# Altium integrated library ON Semi ESD Protection Diodes & Arrays.IntLib: 286 symbols (part 4 of 8)
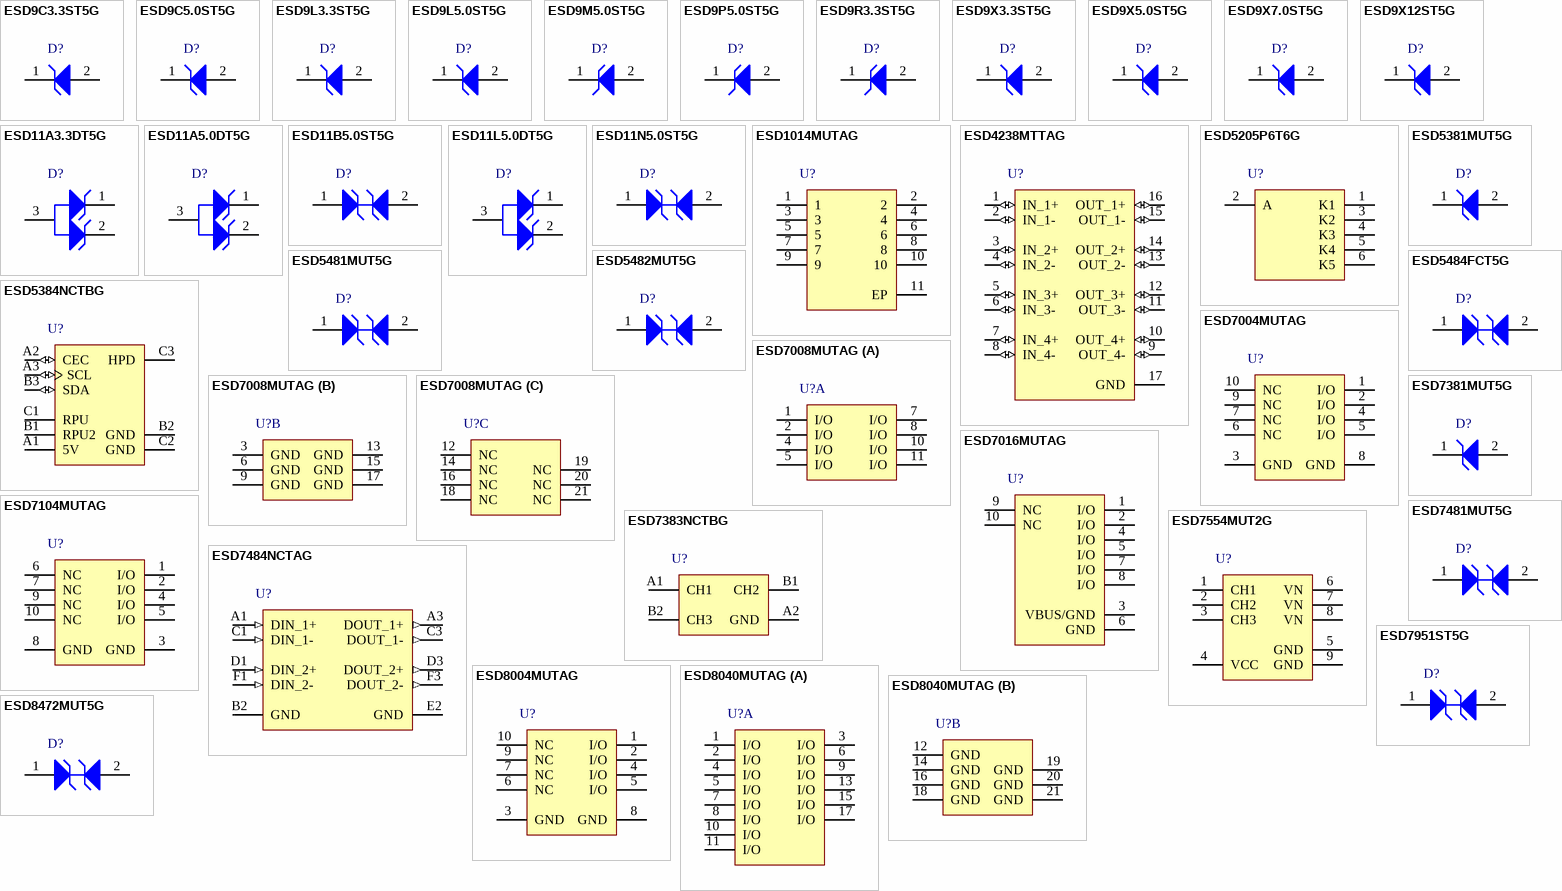
[diagram p10: symbols ESD9C3.3ST5G to ESD8472MUT5G]

## ESD7554MUT2G
designator U?
4­Channel Low Capacitance Dual­Voltage ESD Protection Array, 8-Pin UDFN, Pb-Free, Tape and Reel; Manufacturer: On Semiconductor; PartNumber: ESD7554MUT2G; C Max (pF): 1.5; Direction: Unidirectional; IR Max (uA): 0.1; Number of Lines: 4; DatasheetVersion: Rev. 0; PackageVersion: Rev. O, 11/2009; PackageReference: UDFN-8-517BC-01; PackageDescription: 8-Pin Small Outline No-Lead, Body 1.7 x 1.35 mm, Pitch 0.4 mm; Supplier 1: Newark; Supplier Part Number 1: 72W1862; Supplier 2: Mouser; Supplier Part Number 2: 863-ESD7554MUT2G; Packing: Tape and Reel; RoHS: Pb-Free; Mounting Technology: Surface Mount; ComponentLink1Description: Manufacturer URL; ComponentLink1URL: http://www.onsemi.com/; ComponentLink2Description: Datasheet; ComponentLink2URL: http://www.onsemi.cn/pub_link/Collateral/ESD7554-D.PDF; ComponentLink3Description: Package Specification; ComponentLink3URL: http://www.onsemi.com/pub_link/Collateral/517BC.PDF
footprint ONSC-UDFN-8-517BC-01_V (SON, 8-Leads, Body 1.7x1.35mm, Pitch 0.4mm, Thermal Pad 1.4x0.5mm)
pins: 1 CH1 "LV Low-capacitance ESD Channel", 2 CH2 "LV Low-capacitance ESD Channel", 3 CH3 "LV Low-capacitance ESD Channel", 4 VCC (power) "HV ESD Channel", 5 GND (power) "Ground", 6 VN (power) "Negative Voltage Supply Rail", 7 VN (power) "Negative Voltage Supply Rail", 8 VN (power) "Negative Voltage Supply Rail", 9 GND (power) "Die Attach Pad (Ground)"

## ESD7951ST5G
designator D?
Transient Voltage Suppressor, ESD Protection Diode with Ultra-Low Capacitance, 2-Pin SOD-923, Pb-Free, Tape and Reel; Manufacturer: On Semiconductor; PartNumber: ESD7951ST5G; C Max (pF): 0.9; Direction: Bidirectional; IR Max (uA): 1; V(BR) Min (V): 5.4; VRWM Max (V): 5; DatasheetVersion: Rev. 2; PackageVersion: Rev. C, 03/2011; PackageReference: SOD-923-2-514AB-01; PackageDescription: 2-Pin SOD, Body 0.8 x 0.6 mm; Supplier 1: Digi-Key; Supplier Part Number 1: ESD7951ST5GOSTR-ND; Supplier 2: Digi-Key; Supplier Part Number 2: ESD7951ST5GOSCT-ND; Supplier 3: Digi-Key; Supplier Part Number 3: ESD7951ST5GOSDKR-ND; Supplier 4: Newark; Supplier Part Number 4: 24T3072; Supplier 5: Mouser; Supplier Part Number 5: 863-ESD7951ST5G; Number of Lines: 1; Packing: Tape and Reel; RoHS: Pb-Free; Mounting Technology: Surface Mount; ComponentLink1Description: Manufacturer URL; ComponentLink1URL: http://www.onsemi.com/; ComponentLink2Description: Datasheet; ComponentLink2URL: http://www.onsemi.cn/pub_link/Collateral/ESD7951S-D.PDF; ComponentLink3Description: Package Specification; ComponentLink3URL: http://www.onsemi.com/pub_link/Collateral/514AB.PDF
footprint ONSC-SOD-923-2-514AB-01_V (SOD, 2-Leads, Body 0.8x0.6mm)
pins: 1 A1, 2 A2

## ESD8004MUTAG
designator U?
Transient Voltage Suppressor, Low Capacitance ESD Protection Diode for High Speed Data Line, 10-Pin UDFN, Pb-Free, Tape and Reel; Manufacturer: On Semiconductor; PartNumber: ESD8004MUTAG; Direction: Unidirectional; IR Max (uA): 1; Number of Lines: 4; V(BR) Min (V): 5.5; VRWM Max (V): 3.3; DatasheetVersion: Rev. 2; PackageVersion: Rev. O, 11/2009; PackageReference: UDFN-10-517BB-01; PackageDescription: 10-Pin Small Outline No-Lead, Body 2.5 x 1 mm, Pitch 0.5 mm; Supplier 1: Mouser; Supplier Part Number 1: 863-ESD8004MUTAG; Packing: Tape and Reel; RoHS: Pb-Free; Mounting Technology: Surface Mount; ComponentLink1Description: Manufacturer URL; ComponentLink1URL: http://www.onsemi.com/; ComponentLink2Description: Datasheet; ComponentLink2URL: http://www.onsemi.com/pub_link/Collateral/ESD8004-D.PDF; ComponentLink3Description: Package Specification; ComponentLink3URL: http://www.onsemi.com/pub_link/Collateral/517BB.PDF
footprint ONSC-UDFN-10-517BB-01_V (SON, 10-Leads, Body 2.5x1mm, Pitch 0.5mm)
pins: 1 I/O, 2 I/O, 3 GND (power), 4 I/O, 5 I/O, 6 NC, 7 NC, 8 GND (power), 9 NC, 10 NC

## ESD8040MUTAG
designator U?
Transient Voltage Suppressor, Low Capacitance ESD Protection Diode for High Speed Video Interface, 18-Pin UDFN, Pb-Free, Tape and Reel; Manufacturer: On Semiconductor; PartNumber: ESD8040MUTAG; C Max (pF): 0.35; Direction: Unidirectional; IR Max (uA): 1; Number of Lines: 14; VRWM Max (V): 3.3; DatasheetVersion: Rev. 0; PackageVersion: Rev. A, 02/2013; PackageReference: UDFN-18-517CP; PackageDescription: 18-Pin Small Outline No-Lead, Body 5.5 x 1.5 mm; Supplier 1: Newark; Supplier Part Number 1: 97W5004; Supplier 2: Mouser; Supplier Part Number 2: 863-ESD8040MUTAG; Packing: Tape and Reel; RoHS: Pb-Free; Mounting Technology: Surface Mount; ComponentLink1Description: Manufacturer URL; ComponentLink1URL: http://www.onsemi.com/; ComponentLink2Description: Datasheet; ComponentLink2URL: http://www.onsemi.com/pub_link/Collateral/ESD8040-D.PDF; ComponentLink3Description: Package Specification; ComponentLink3URL: http://www.onsemi.com/pub_link/Collateral/517CP.PDF
footprint ONSC-UDFN-18-517CP_V (SON, 18-Leads, Body 5.5x1.5mm)
part A pins: 1 I/O, 2 I/O, 3 I/O, 4 I/O, 5 I/O, 6 I/O, 7 I/O, 8 I/O, 9 I/O, 10 I/O, 11 I/O, 13 I/O, 15 I/O, 17 I/O
part B pins: 12 GND (power), 14 GND (power), 16 GND (power), 18 GND (power), 19 GND (power), 20 GND (power), 21 GND (power)

## ESD8472MUT5G
designator D?
Ultra-Low Capacitance ESD Protection, Micro-Packaged Diode for ESD Protection, 2-Pin X3DFN, Pb-Free, Tape and Reel; Manufacturer: On Semiconductor; PartNumber: ESD8472MUT5G; C Max (pF): 0.3; Direction: Bidirectional; IR Max (uA): 0.05; Number of Lines: 1; V(BR) Min (V): 7; VRWM Max (V): 5.3; DatasheetVersion: Rev. 4; PackageVersion: Rev. O, 04/2011; PackageReference: X3DFN-2-152AF-01; PackageDescription: 2-Pin Small Outline No-Lead, Body 0.62 x 0.32 mm, Pitch 0.355 mm; Supplier 1: Newark; Supplier Part Number 1: 45W8177; Supplier 2: Mouser; Supplier Part Number 2: 863-ESD8472MUT5G; Packing: Tape and Reel; RoHS: Pb-Free; Mounting Technology: Surface Mount; ComponentLink1Description: Manufacturer URL; ComponentLink1URL: http://www.onsemi.com/; ComponentLink2Description: Datasheet; ComponentLink2URL: http://www.onsemi.cn/pub_link/Collateral/ESD8472-D.PDF; ComponentLink3Description: Package Specification; ComponentLink3URL: http://www.onsemi.cn/pub_link/Collateral/152AF.PDF
footprint ONSC-X3DFN-2-152AF-01_V (Molded, 2-Leads, Body 0.62x0.32mm)
pins: 1 A1, 2 A2

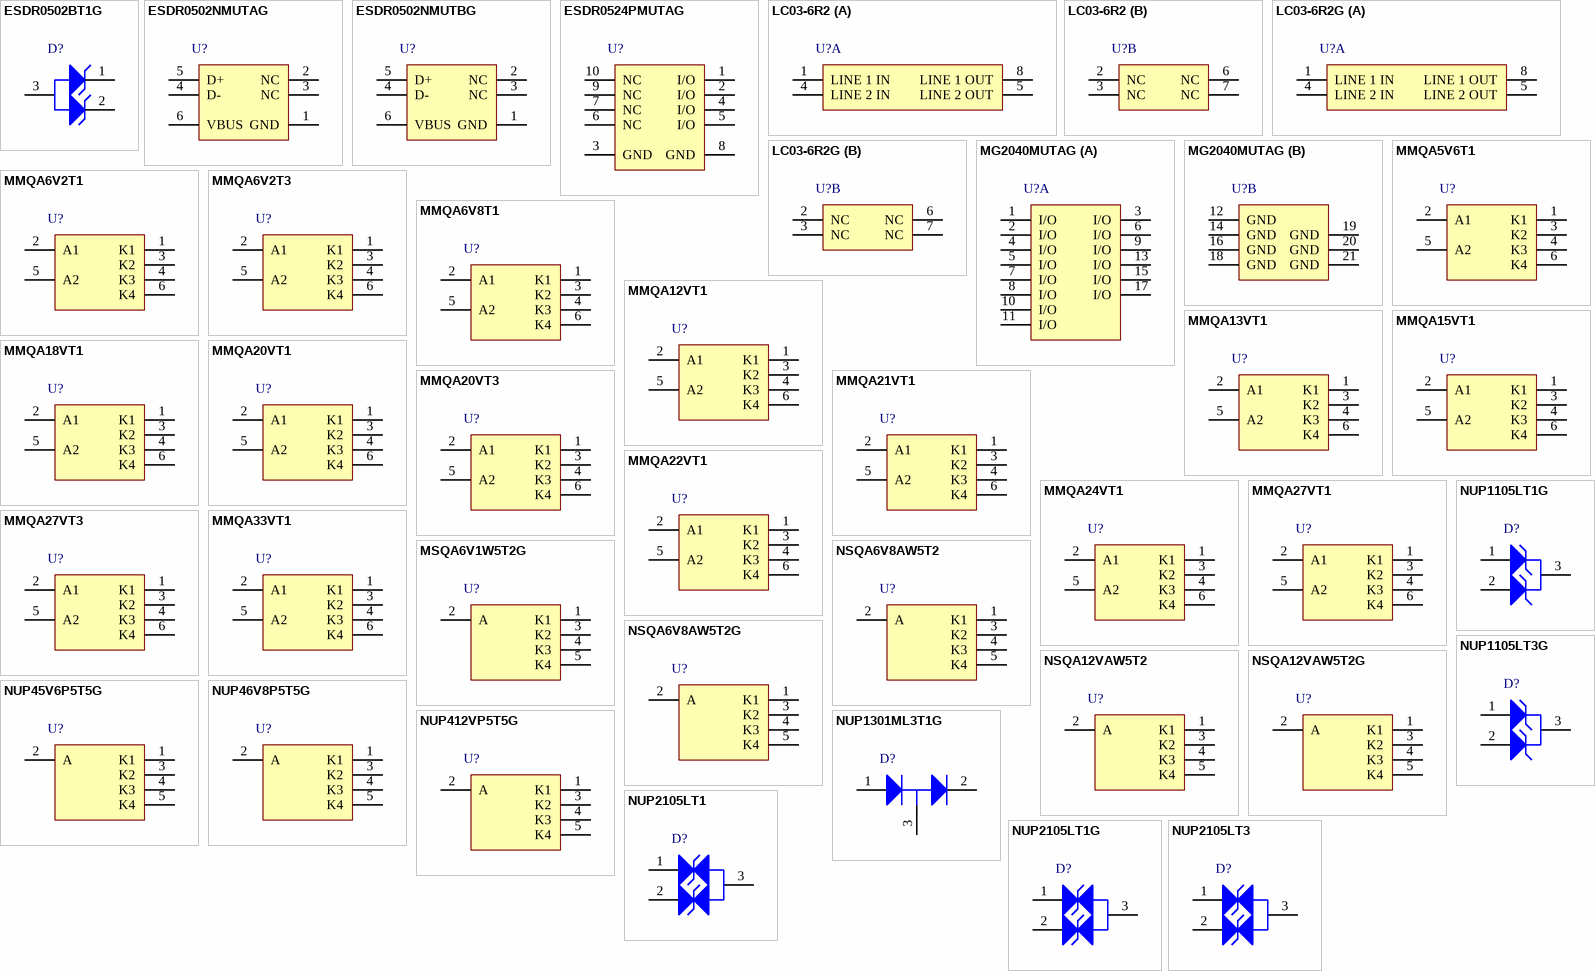
[diagram p3: symbols ESDR0502BT1G to NUP2105LT3]

## ESDR0502BT1G
designator D?
Transient Voltage Suppressor, ESD Protection Diode with Ultra-Low Capacitance, 3-Pin SC-75, Pb-Free, Tape and Reel; Manufacturer: On Semiconductor; PartNumber: ESDR0502BT1G; Direction: Unidirectional; IR Max (uA): 1; Number of Lines: 2; PPK Max (W): 20; V(BR) Min (V): 5.8; VRWM Max (V): 5; DatasheetVersion: Rev. 0; PackageVersion: Rev. F, 07/2005; PackageReference: SC-75-3-463-01; PackageDescription: 3-Pin Small Outline Transistor, Body 1.6 x 0.8 mm, Pitch 0.5 mm; Supplier 1: Digi-Key; Supplier Part Number 1: ESDR0502BT1GOSTR-ND; Supplier 2: Digi-Key; Supplier Part Number 2: ESDR0502BT1GOSCT-ND; Supplier 3: Digi-Key; Supplier Part Number 3: ESDR0502BT1GOSDKR-ND; Supplier 4: Farnell; Supplier Part Number 4: 2317492; Supplier 5: Newark; Supplier Part Number 5: 99R2678; Supplier 6: Mouser; Supplier Part Number 6: 863-ESDR0502BT1G; Packing: Tape and Reel; RoHS: Pb-Free; Mounting Technology: Surface Mount; ComponentLink1Description: Manufacturer URL; ComponentLink1URL: http://www.onsemi.com/; ComponentLink2Description: Datasheet; ComponentLink2URL: http://www.onsemi.cn/pub_link/Collateral/ESDR0502B-D.PDF; ComponentLink3Description: Package Specification; ComponentLink3URL: http://www.onsemi.com/pub_link/Collateral/463-01.PDF
footprint ONSC-SC-75-3-463-01_V (SOT23, 3-Leads, Body 1.6x0.8mm, Pitch 0.5mm)
pins: 1 K1, 2 K2, 3 A

## ESDR0502NMUTAG
designator U?
Ultra Low Capacitance ESD Protection Array for High Speed Data Line Protection, 6-Pin UDFN, Pb-Free, Tape and Reel; Manufacturer: On Semiconductor; PartNumber: ESDR0502NMUTAG; C Max (pF): 0.6; Direction: Unidirectional; IR Max (uA): 1; Number of Lines: 4; PPK Max (W): 100; V(BR) Min (V): 6; VRWM Max (V): 5.5; DatasheetVersion: Rev. 4; PackageVersion: Rev. D, 09/2010; PackageReference: UDFN-6-517AA-01; PackageDescription: 6-Pin Small Outline No-Lead, Body 1.2 x 1 mm, Pitch 0.4 mm; Supplier 1: Newark; Supplier Part Number 1: 92T2061; Supplier 2: Mouser; Supplier Part Number 2: 863-ESDR0502NMUTAG; Packing: Tape and Reel; RoHS: Pb-Free; Mounting Technology: Surface Mount; ComponentLink1Description: Manufacturer URL; ComponentLink1URL: http://www.onsemi.com/; ComponentLink2Description: Datasheet; ComponentLink2URL: http://www.onsemi.cn/pub_link/Collateral/ESDR0502N-D.PDF; ComponentLink3Description: Package Specification; ComponentLink3URL: http://www.onsemi.com/pub_link/Collateral/517AA.PDF
footprint ONSC-UDFN-6-517AA-01_V (SON, 6-Leads, Body 1.2x1mm, Pitch 0.4mm)
pins: 1 GND (power), 2 NC, 3 NC, 4 D-, 5 D+, 6 VBUS (power)

## ESDR0502NMUTBG
designator U?
Ultra Low Capacitance ESD Protection Array for High Speed Data Line Protection, 6-Pin UDFN, Pb-Free, Tape and Reel; Manufacturer: On Semiconductor; PartNumber: ESDR0502NMUTBG; C Max (pF): 0.6; Direction: Unidirectional; IR Max (uA): 1; Number of Lines: 4; PPK Max (W): 100; V(BR) Min (V): 6; VRWM Max (V): 5.5; DatasheetVersion: Rev. 4; PackageVersion: Rev. D, 09/2010; PackageReference: UDFN-6-517AA-01; PackageDescription: 6-Pin Small Outline No-Lead, Body 1.2 x 1 mm, Pitch 0.4 mm; Supplier 1: Digi-Key; Supplier Part Number 1: ESDR0502NMUTBGOSTR-ND; Supplier 2: Digi-Key; Supplier Part Number 2: ESDR0502NMUTBGOSCT-ND; Supplier 3: Digi-Key; Supplier Part Number 3: ESDR0502NMUTBGOSDKR-ND; Supplier 4: Farnell; Supplier Part Number 4: 1847335; Supplier 5: Newark; Supplier Part Number 5: 63R3290; Supplier 6: Mouser; Supplier Part Number 6: 863-ESDR0502NMUTBG; Packing: Tape and Reel; RoHS: Pb-Free; Mounting Technology: Surface Mount; ComponentLink1Description: Manufacturer URL; ComponentLink1URL: http://www.onsemi.com/; ComponentLink2Description: Datasheet; ComponentLink2URL: http://www.onsemi.cn/pub_link/Collateral/ESDR0502N-D.PDF; ComponentLink3Description: Package Specification; ComponentLink3URL: http://www.onsemi.com/pub_link/Collateral/517AA.PDF
footprint ONSC-UDFN-6-517AA-01_V (SON, 6-Leads, Body 1.2x1mm, Pitch 0.4mm)
pins: 1 GND (power), 2 NC, 3 NC, 4 D-, 5 D+, 6 VBUS (power)

## ESDR0524PMUTAG
designator U?
Transient Voltage Suppressor, Low Capacitance ESD Protection for High Speed Data, 10-Pin UDFN, Pb-Free, Tape and Reel; Manufacturer: On Semiconductor; PartNumber: ESDR0524PMUTAG; Direction: Unidirectional; IR Max (uA): 1; Number of Lines: 4; V(BR) Min (V): 5.5; VRWM Max (V): 5; DatasheetVersion: Rev. 4; PackageVersion: Rev. O, 11/2009; PackageReference: UDFN-10-517BB-01; PackageDescription: 10-Pin Small Outline No-Lead, Body 2.5 x 1 mm, Pitch 0.5 mm; Supplier 1: Digi-Key; Supplier Part Number 1: ESDR0524PMUTAGOSTR-ND; Supplier 2: Digi-Key; Supplier Part Number 2: ESDR0524PMUTAGOSCT-ND; Supplier 3: Digi-Key; Supplier Part Number 3: ESDR0524PMUTAGOSDKR-ND; Supplier 4: Newark; Supplier Part Number 4: 79R3448; Supplier 5: Mouser; Supplier Part Number 5: 863-ESDR0524PMUTAG; Packing: Tape and Reel; RoHS: Pb-Free; Mounting Technology: Surface Mount; ComponentLink1Description: Manufacturer URL; ComponentLink1URL: http://www.onsemi.com/; ComponentLink2Description: Datasheet; ComponentLink2URL: http://www.onsemi.cn/pub_link/Collateral/ESDR0524P-D.PDF; ComponentLink3Description: Package Specification; ComponentLink3URL: http://www.onsemi.com/pub_link/Collateral/517BB.PDF
footprint ONSC-UDFN-10-517BB-01_V (SON, 10-Leads, Body 2.5x1mm, Pitch 0.5mm)
pins: 1 I/O, 2 I/O, 3 GND (power), 4 I/O, 5 I/O, 6 NC, 7 NC, 8 GND (power), 9 NC, 10 NC

## LC03-6R2
designator U?
Low Capacitance Surface Mount TVS for High-Speed Data Interfaces, 8-Pin SOIC, Tape and Reel; Manufacturer: On Semiconductor; PartNumber: LC03-6R2; Direction: Unidirectional; IR Max (uA): 20; PPK Max (W): 2000; V(BR) Min (V): 6.8; DatasheetVersion: Rev. 4; PackageVersion: Rev. AK, 02/2011; PackageReference: SOIC-8-751-07; PackageDescription: 8-Pin Small Outline Integrated Circuit, Body 4.9 x 3.9 mm, Pitch 1.27 mm; Supplier 1: Digi-Key; Supplier Part Number 1: LC03-6R2OSTR-ND; Supplier 2: Digi-Key; Supplier Part Number 2: LC03-6R2OSCT-ND; Packing: Tape and Reel; Mounting Technology: Surface Mount; ComponentLink1Description: Manufacturer URL; ComponentLink1URL: http://www.onsemi.com/; ComponentLink2Description: Datasheet; ComponentLink2URL: http://www.onsemi.cn/pub_link/Collateral/LC03-6R2-D.PDF; ComponentLink3Description: Package Specification; ComponentLink3URL: http://www.onsemi.com/pub_link/Collateral/751-07.PDF
footprint ONSC-SOIC-8-751-07_V (SOIC, 8-Leads, Body 4.9x3.9mm, Pitch 1.27mm)
part A pins: 1 LINE 1 IN, 4 LINE 2 IN, 5 LINE 2 OUT, 8 LINE 1 OUT
part B pins: 2 NC, 3 NC, 6 NC, 7 NC

## LC03-6R2G
designator U?
Low Capacitance Surface Mount TVS for High-Speed Data Interfaces, 8-Pin SOIC, Pb-Free, Tape and Reel; Manufacturer: On Semiconductor; PartNumber: LC03-6R2G; Direction: Unidirectional; IR Max (uA): 20; PPK Max (W): 2000; V(BR) Min (V): 6.8; DatasheetVersion: Rev. 4; PackageVersion: Rev. AK, 02/2011; PackageReference: SOIC-8-751-07; PackageDescription: 8-Pin Small Outline Integrated Circuit, Body 4.9 x 3.9 mm, Pitch 1.27 mm; Supplier 1: Digi-Key; Supplier Part Number 1: LC03-6R2GOSTR-ND; Supplier 2: Digi-Key; Supplier Part Number 2: LC03-6R2GOSCT-ND; Supplier 3: Digi-Key; Supplier Part Number 3: LC03-6R2GOSDKR-ND; Supplier 4: Farnell; Supplier Part Number 4: 1703034; Supplier 5: Farnell; Supplier Part Number 5: 1703034RL; Supplier 6: Newark; Supplier Part Number 6: 50M2055; Supplier 7: Mouser; Supplier Part Number 7: 863-LC03-6R2G; Packing: Tape and Reel; RoHS: Pb-Free; Mounting Technology: Surface Mount; ComponentLink1Description: Manufacturer URL; ComponentLink1URL: http://www.onsemi.com/; ComponentLink2Description: Datasheet; ComponentLink2URL: http://www.onsemi.cn/pub_link/Collateral/LC03-6R2-D.PDF; ComponentLink3Description: Package Specification; ComponentLink3URL: http://www.onsemi.com/pub_link/Collateral/751-07.PDF
footprint ONSC-SOIC-8-751-07_V (SOIC, 8-Leads, Body 4.9x3.9mm, Pitch 1.27mm)
part A pins: 1 LINE 1 IN, 4 LINE 2 IN, 5 LINE 2 OUT, 8 LINE 1 OUT
part B pins: 2 NC, 3 NC, 6 NC, 7 NC

## MG2040MUTAG
designator U?
Transient Voltage Suppressor, Low Capacitance ESD Protection for High Speed Video Interface, 18-Pin UDFN, Pb-Free, Tape and Reel; Manufacturer: On Semiconductor; PartNumber: MG2040MUTAG; Direction: Unidirectional; IR Max (uA): 1; Number of Lines: 14; V(BR) Min (V): 5.5; VRWM Max (V): 5; DatasheetVersion: Rev. 3; PackageVersion: Rev. A, 02/2013; PackageReference: UDFN-18-517CP; PackageDescription: 18-Pin Small Outline No-Lead, Body 5.5 x 1.5 mm; Supplier 1: Digi-Key; Supplier Part Number 1: MG2040MUTAG-ND; Supplier 2: Newark; Supplier Part Number 2: 65T1404; Supplier 3: Mouser; Supplier Part Number 3: 863-MG2040MUTAG; Packing: Tape and Reel; RoHS: Pb-Free; Mounting Technology: Surface Mount; ComponentLink1Description: Manufacturer URL; ComponentLink1URL: http://www.onsemi.com/; ComponentLink2Description: Datasheet; ComponentLink2URL: http://www.onsemi.cn/pub_link/Collateral/MG2040-D.PDF; ComponentLink3Description: Package Specification; ComponentLink3URL: http://www.onsemi.com/pub_link/Collateral/517CP.PDF
footprint ONSC-UDFN-18-517CP_V (SON, 18-Leads, Body 5.5x1.5mm)
part A pins: 1 I/O, 2 I/O, 3 I/O, 4 I/O, 5 I/O, 6 I/O, 7 I/O, 8 I/O, 9 I/O, 10 I/O, 11 I/O, 13 I/O, 15 I/O, 17 I/O
part B pins: 12 GND (power), 14 GND (power), 16 GND (power), 18 GND (power), 19 GND (power), 20 GND (power), 21 GND (power)

## MMQA5V6T1
designator U?
Quad Monolithic Common Anode, Transient Voltage Suppressor for ESD Protection, 6-Pin SC-74, Tape and Reel; Manufacturer: On Semiconductor; PartNumber: MMQA5V6T1; Direction: Unidirectional; IR Max (uA): 2; Number of Lines: 4; VRWM Max (V): 3; DatasheetVersion: Rev. 10; PackageVersion: Rev. N, 06/2012; PackageReference: SC-74-6-318F-05; PackageDescription: 6-Pin Small Outline Transistor, Body 3 x 1.5 mm, Pitch 0.95 mm; Supplier 1: Digi-Key; Supplier Part Number 1: MMQA5V6T1OSTR-ND; Supplier 2: Digi-Key; Supplier Part Number 2: MMQA5V6T1OSCT-ND; Packing: Tape and Reel; Mounting Technology: Surface Mount; ComponentLink1Description: Manufacturer URL; ComponentLink1URL: http://www.onsemi.com/; ComponentLink2Description: Datasheet; ComponentLink2URL: http://www.onsemi.cn/pub_link/Collateral/MMQA-D.PDF; ComponentLink3Description: Package Specification; ComponentLink3URL: http://www.onsemi.com/pub_link/Collateral/318F-05.PDF
footprint ONSC-SC-74-6-318F-05_V (SOT23, 6-Leads, Body 3x1.5mm, Pitch 0.95mm)
pins: 1 K1, 2 A1, 3 K2, 4 K3, 5 A2, 6 K4

## MMQA6V2T1
designator U?
Quad Monolithic Common Anode, Transient Voltage Suppressor for ESD Protection, 6-Pin SC-74, Tape and Reel; Manufacturer: On Semiconductor; PartNumber: MMQA6V2T1; Direction: Unidirectional; IR Max (uA): 0.7; Number of Lines: 4; DatasheetVersion: Rev. 10; PackageVersion: Rev. N, 06/2012; PackageReference: SC-74-6-318F-05; PackageDescription: 6-Pin Small Outline Transistor, Body 3 x 1.5 mm, Pitch 0.95 mm; Supplier 1: Digi-Key; Supplier Part Number 1: MMQA6V2T1OSTR-ND; Supplier 2: Digi-Key; Supplier Part Number 2: MMQA6V2T1OSCT-ND; Packing: Tape and Reel; VRWM Max (V): 4; Mounting Technology: Surface Mount; ComponentLink1Description: Manufacturer URL; ComponentLink1URL: http://www.onsemi.com/; ComponentLink2Description: Datasheet; ComponentLink2URL: http://www.onsemi.cn/pub_link/Collateral/MMQA-D.PDF; ComponentLink3Description: Package Specification; ComponentLink3URL: http://www.onsemi.com/pub_link/Collateral/318F-05.PDF
footprint ONSC-SC-74-6-318F-05_V (SOT23, 6-Leads, Body 3x1.5mm, Pitch 0.95mm)
pins: 1 K1, 2 A1, 3 K2, 4 K3, 5 A2, 6 K4

## MMQA6V2T3
designator U?
Quad Monolithic Common Anode, Transient Voltage Suppressor for ESD Protection, 6-Pin SC-74, Tape and Reel; Manufacturer: On Semiconductor; PartNumber: MMQA6V2T3; Direction: Unidirectional; IR Max (uA): 0.7; Number of Lines: 4; DatasheetVersion: Rev. 10; PackageVersion: Rev. N, 06/2012; PackageReference: SC-74-6-318F-05; PackageDescription: 6-Pin Small Outline Transistor, Body 3 x 1.5 mm, Pitch 0.95 mm; Supplier 1: Digi-Key; Supplier Part Number 1: MMQA6V2T3-ND; Supplier 2: Mouser; Supplier Part Number 2: 863-MMQA6V2T3; Packing: Tape and Reel; VRWM Max (V): 4; Mounting Technology: Surface Mount; ComponentLink1Description: Manufacturer URL; ComponentLink1URL: http://www.onsemi.com/; ComponentLink2Description: Datasheet; ComponentLink2URL: http://www.onsemi.cn/pub_link/Collateral/MMQA-D.PDF; ComponentLink3Description: Package Specification; ComponentLink3URL: http://www.onsemi.com/pub_link/Collateral/318F-05.PDF
footprint ONSC-SC-74-6-318F-05_V (SOT23, 6-Leads, Body 3x1.5mm, Pitch 0.95mm)
pins: 1 K1, 2 A1, 3 K2, 4 K3, 5 A2, 6 K4

## MMQA6V8T1
designator U?
Quad Monolithic Common Anode, Transient Voltage Suppressor for ESD Protection, 6-Pin SC-74, Tape and Reel; Manufacturer: On Semiconductor; PartNumber: MMQA6V8T1; C Max (pF): 250; Direction: Unidirectional; IR Max (uA): 0.5; Number of Lines: 4; VRWM Max (V): 4.3; DatasheetVersion: Rev. 10; PackageVersion: Rev. N, 06/2012; PackageReference: SC-74-6-318F-05; PackageDescription: 6-Pin Small Outline Transistor, Body 3 x 1.5 mm, Pitch 0.95 mm; Supplier 1: Digi-Key; Supplier Part Number 1: MMQA6V8T1OS-ND; Packing: Tape and Reel; Mounting Technology: Surface Mount; ComponentLink1Description: Manufacturer URL; ComponentLink1URL: http://www.onsemi.com/; ComponentLink2Description: Datasheet; ComponentLink2URL: http://www.onsemi.cn/pub_link/Collateral/MMQA-D.PDF; ComponentLink3Description: Package Specification; ComponentLink3URL: http://www.onsemi.com/pub_link/Collateral/318F-05.PDF
footprint ONSC-SC-74-6-318F-05_V (SOT23, 6-Leads, Body 3x1.5mm, Pitch 0.95mm)
pins: 1 K1, 2 A1, 3 K2, 4 K3, 5 A2, 6 K4

## MMQA12VT1
designator U?
Quad Monolithic Common Anode, Transient Voltage Suppressor for ESD Protection, 6-Pin SC-74, Tape and Reel; Manufacturer: On Semiconductor; PartNumber: MMQA12VT1; Direction: Unidirectional; IR Max (uA): 0.075; Number of Lines: 4; VRWM Max (V): 9.1; DatasheetVersion: Rev. 10; PackageVersion: Rev. N, 06/2012; PackageReference: SC-74-6-318F-05; PackageDescription: 6-Pin Small Outline Transistor, Body 3 x 1.5 mm, Pitch 0.95 mm; Supplier 1: Digi-Key; Supplier Part Number 1: MMQA12VT1-ND; Packing: Tape and Reel; Mounting Technology: Surface Mount; ComponentLink1Description: Manufacturer URL; ComponentLink1URL: http://www.onsemi.com/; ComponentLink2Description: Datasheet; ComponentLink2URL: http://www.onsemi.cn/pub_link/Collateral/MMQA-D.PDF; ComponentLink3Description: Package Specification; ComponentLink3URL: http://www.onsemi.com/pub_link/Collateral/318F-05.PDF
footprint ONSC-SC-74-6-318F-05_V (SOT23, 6-Leads, Body 3x1.5mm, Pitch 0.95mm)
pins: 1 K1, 2 A1, 3 K2, 4 K3, 5 A2, 6 K4

## MMQA13VT1
designator U?
Quad Monolithic Common Anode, Transient Voltage Suppressor for ESD Protection, 6-Pin SC-74, Tape and Reel; Manufacturer: On Semiconductor; PartNumber: MMQA13VT1; Direction: Unidirectional; IR Max (uA): 0.075; Number of Lines: 4; VRWM Max (V): 9.8; DatasheetVersion: Rev. 10; PackageVersion: Rev. N, 06/2012; PackageReference: SC-74-6-318F-05; PackageDescription: 6-Pin Small Outline Transistor, Body 3 x 1.5 mm, Pitch 0.95 mm; Supplier 1: Digi-Key; Supplier Part Number 1: MMQA13VT1-ND; Supplier 2: Mouser; Supplier Part Number 2: 863-MMQA13VT1; Packing: Tape and Reel; Mounting Technology: Surface Mount; ComponentLink1Description: Manufacturer URL; ComponentLink1URL: http://www.onsemi.com/; ComponentLink2Description: Datasheet; ComponentLink2URL: http://www.onsemi.cn/pub_link/Collateral/MMQA-D.PDF; ComponentLink3Description: Package Specification; ComponentLink3URL: http://www.onsemi.com/pub_link/Collateral/318F-05.PDF
footprint ONSC-SC-74-6-318F-05_V (SOT23, 6-Leads, Body 3x1.5mm, Pitch 0.95mm)
pins: 1 K1, 2 A1, 3 K2, 4 K3, 5 A2, 6 K4

## MMQA15VT1
designator U?
Quad Monolithic Common Anode, Transient Voltage Suppressor for ESD Protection, 6-Pin SC-74, Tape and Reel; Manufacturer: On Semiconductor; PartNumber: MMQA15VT1; Direction: Unidirectional; IR Max (uA): 0.075; Number of Lines: 4; VRWM Max (V): 11; DatasheetVersion: Rev. 10; PackageVersion: Rev. N, 06/2012; PackageReference: SC-74-6-318F-05; PackageDescription: 6-Pin Small Outline Transistor, Body 3 x 1.5 mm, Pitch 0.95 mm; Supplier 1: Digi-Key; Supplier Part Number 1: MMQA15VT1-ND; Packing: Tape and Reel; Mounting Technology: Surface Mount; ComponentLink1Description: Manufacturer URL; ComponentLink1URL: http://www.onsemi.com/; ComponentLink2Description: Datasheet; ComponentLink2URL: http://www.onsemi.cn/pub_link/Collateral/MMQA-D.PDF; ComponentLink3Description: Package Specification; ComponentLink3URL: http://www.onsemi.com/pub_link/Collateral/318F-05.PDF
footprint ONSC-SC-74-6-318F-05_V (SOT23, 6-Leads, Body 3x1.5mm, Pitch 0.95mm)
pins: 1 K1, 2 A1, 3 K2, 4 K3, 5 A2, 6 K4

## MMQA18VT1
designator U?
Quad Monolithic Common Anode, Transient Voltage Suppressor for ESD Protection, 6-Pin SC-74, Tape and Reel; Manufacturer: On Semiconductor; PartNumber: MMQA18VT1; Direction: Unidirectional; IR Max (uA): 0.075; Number of Lines: 4; VRWM Max (V): 14; DatasheetVersion: Rev. 10; PackageVersion: Rev. N, 06/2012; PackageReference: SC-74-6-318F-05; PackageDescription: 6-Pin Small Outline Transistor, Body 3 x 1.5 mm, Pitch 0.95 mm; Supplier 1: Digi-Key; Supplier Part Number 1: MMQA18VT1OS-ND; Packing: Tape and Reel; Mounting Technology: Surface Mount; ComponentLink1Description: Manufacturer URL; ComponentLink1URL: http://www.onsemi.com/; ComponentLink2Description: Datasheet; ComponentLink2URL: http://www.onsemi.cn/pub_link/Collateral/MMQA-D.PDF; ComponentLink3Description: Package Specification; ComponentLink3URL: http://www.onsemi.com/pub_link/Collateral/318F-05.PDF
footprint ONSC-SC-74-6-318F-05_V (SOT23, 6-Leads, Body 3x1.5mm, Pitch 0.95mm)
pins: 1 K1, 2 A1, 3 K2, 4 K3, 5 A2, 6 K4

## MMQA20VT1
designator U?
Quad Monolithic Common Anode, Transient Voltage Suppressor for ESD Protection, 6-Pin SC-74, Tape and Reel; Manufacturer: On Semiconductor; PartNumber: MMQA20VT1; Direction: Unidirectional; IR Max (uA): 0.075; Number of Lines: 4; VRWM Max (V): 15; DatasheetVersion: Rev. 10; PackageVersion: Rev. N, 06/2012; PackageReference: SC-74-6-318F-05; PackageDescription: 6-Pin Small Outline Transistor, Body 3 x 1.5 mm, Pitch 0.95 mm; Supplier 1: Digi-Key; Supplier Part Number 1: MMQA20VT1-ND; Packing: Tape and Reel; Mounting Technology: Surface Mount; ComponentLink1Description: Manufacturer URL; ComponentLink1URL: http://www.onsemi.com/; ComponentLink2Description: Datasheet; ComponentLink2URL: http://www.onsemi.cn/pub_link/Collateral/MMQA-D.PDF; ComponentLink3Description: Package Specification; ComponentLink3URL: http://www.onsemi.com/pub_link/Collateral/318F-05.PDF
footprint ONSC-SC-74-6-318F-05_V (SOT23, 6-Leads, Body 3x1.5mm, Pitch 0.95mm)
pins: 1 K1, 2 A1, 3 K2, 4 K3, 5 A2, 6 K4

## MMQA20VT3
designator U?
Quad Monolithic Common Anode, Transient Voltage Suppressor for ESD Protection, 6-Pin SC-74, Tape and Reel; Manufacturer: On Semiconductor; PartNumber: MMQA20VT3; Direction: Unidirectional; IR Max (uA): 0.075; Number of Lines: 4; VRWM Max (V): 15; DatasheetVersion: Rev. 10; PackageVersion: Rev. N, 06/2012; PackageReference: SC-74-6-318F-05; PackageDescription: 6-Pin Small Outline Transistor, Body 3 x 1.5 mm, Pitch 0.95 mm; Supplier 1: Digi-Key; Supplier Part Number 1: MMQA20VT3-ND; Supplier 2: Mouser; Supplier Part Number 2: 863-MMQA20VT3; Packing: Tape and Reel; Mounting Technology: Surface Mount; ComponentLink1Description: Manufacturer URL; ComponentLink1URL: http://www.onsemi.com/; ComponentLink2Description: Datasheet; ComponentLink2URL: http://www.onsemi.cn/pub_link/Collateral/MMQA-D.PDF; ComponentLink3Description: Package Specification; ComponentLink3URL: http://www.onsemi.com/pub_link/Collateral/318F-05.PDF
footprint ONSC-SC-74-6-318F-05_V (SOT23, 6-Leads, Body 3x1.5mm, Pitch 0.95mm)
pins: 1 K1, 2 A1, 3 K2, 4 K3, 5 A2, 6 K4

## MMQA21VT1
designator U?
Quad Monolithic Common Anode, Transient Voltage Suppressor for ESD Protection, 6-Pin SC-74, Tape and Reel; Manufacturer: On Semiconductor; PartNumber: MMQA21VT1; Direction: Unidirectional; IR Max (uA): 0.075; Number of Lines: 4; VRWM Max (V): 16; DatasheetVersion: Rev. 10; PackageVersion: Rev. N, 06/2012; PackageReference: SC-74-6-318F-05; PackageDescription: 6-Pin Small Outline Transistor, Body 3 x 1.5 mm, Pitch 0.95 mm; Supplier 1: Mouser; Supplier Part Number 1: N/A; Packing: Tape and Reel; Mounting Technology: Surface Mount; ComponentLink1Description: Manufacturer URL; ComponentLink1URL: http://www.onsemi.com/; ComponentLink2Description: Datasheet; ComponentLink2URL: http://www.onsemi.cn/pub_link/Collateral/MMQA-D.PDF; ComponentLink3Description: Package Specification; ComponentLink3URL: http://www.onsemi.com/pub_link/Collateral/318F-05.PDF
footprint ONSC-SC-74-6-318F-05_V (SOT23, 6-Leads, Body 3x1.5mm, Pitch 0.95mm)
pins: 1 K1, 2 A1, 3 K2, 4 K3, 5 A2, 6 K4

## MMQA22VT1
designator U?
Quad Monolithic Common Anode, Transient Voltage Suppressor for ESD Protection, 6-Pin SC-74, Tape and Reel; Manufacturer: On Semiconductor; PartNumber: MMQA22VT1; Direction: Unidirectional; IR Max (uA): 0.075; Number of Lines: 4; VRWM Max (V): 17; DatasheetVersion: Rev. 10; PackageVersion: Rev. N, 06/2012; PackageReference: SC-74-6-318F-05; PackageDescription: 6-Pin Small Outline Transistor, Body 3 x 1.5 mm, Pitch 0.95 mm; Supplier 1: Digi-Key; Supplier Part Number 1: MMQA22VT1-ND; Packing: Tape and Reel; Mounting Technology: Surface Mount; ComponentLink1Description: Manufacturer URL; ComponentLink1URL: http://www.onsemi.com/; ComponentLink2Description: Datasheet; ComponentLink2URL: http://www.onsemi.cn/pub_link/Collateral/MMQA-D.PDF; ComponentLink3Description: Package Specification; ComponentLink3URL: http://www.onsemi.com/pub_link/Collateral/318F-05.PDF
footprint ONSC-SC-74-6-318F-05_V (SOT23, 6-Leads, Body 3x1.5mm, Pitch 0.95mm)
pins: 1 K1, 2 A1, 3 K2, 4 K3, 5 A2, 6 K4

## MMQA24VT1
designator U?
Quad Monolithic Common Anode, Transient Voltage Suppressor for ESD Protection, 6-Pin SC-74, Tape and Reel; Manufacturer: On Semiconductor; PartNumber: MMQA24VT1; Direction: Unidirectional; IR Max (uA): 0.075; Number of Lines: 4; VRWM Max (V): 18; DatasheetVersion: Rev. 10; PackageVersion: Rev. N, 06/2012; PackageReference: SC-74-6-318F-05; PackageDescription: 6-Pin Small Outline Transistor, Body 3 x 1.5 mm, Pitch 0.95 mm; Supplier 1: Digi-Key; Supplier Part Number 1: MMQA24VT1-ND; Packing: Tape and Reel; Mounting Technology: Surface Mount; ComponentLink1Description: Manufacturer URL; ComponentLink1URL: http://www.onsemi.com/; ComponentLink2Description: Datasheet; ComponentLink2URL: http://www.onsemi.cn/pub_link/Collateral/MMQA-D.PDF; ComponentLink3Description: Package Specification; ComponentLink3URL: http://www.onsemi.com/pub_link/Collateral/318F-05.PDF
footprint ONSC-SC-74-6-318F-05_V (SOT23, 6-Leads, Body 3x1.5mm, Pitch 0.95mm)
pins: 1 K1, 2 A1, 3 K2, 4 K3, 5 A2, 6 K4

## MMQA27VT1
designator U?
Quad Monolithic Common Anode, Transient Voltage Suppressor for ESD Protection, 6-Pin SC-74, Tape and Reel; Manufacturer: On Semiconductor; PartNumber: MMQA27VT1; Direction: Unidirectional; IR Max (uA): 0.075; Number of Lines: 4; VRWM Max (V): 21; DatasheetVersion: Rev. 10; PackageVersion: Rev. N, 06/2012; PackageReference: SC-74-6-318F-05; PackageDescription: 6-Pin Small Outline Transistor, Body 3 x 1.5 mm, Pitch 0.95 mm; Packing: Tape and Reel; Mounting Technology: Surface Mount; ComponentLink1Description: Manufacturer URL; ComponentLink1URL: http://www.onsemi.com/; ComponentLink2Description: Datasheet; ComponentLink2URL: http://www.onsemi.cn/pub_link/Collateral/MMQA-D.PDF; ComponentLink3Description: Package Specification; ComponentLink3URL: http://www.onsemi.com/pub_link/Collateral/318F-05.PDF
footprint ONSC-SC-74-6-318F-05_V (SOT23, 6-Leads, Body 3x1.5mm, Pitch 0.95mm)
pins: 1 K1, 2 A1, 3 K2, 4 K3, 5 A2, 6 K4

## MMQA27VT3
designator U?
Quad Monolithic Common Anode, Transient Voltage Suppressor for ESD Protection, 6-Pin SC-74, Tape and Reel; Manufacturer: On Semiconductor; PartNumber: MMQA27VT3; Direction: Unidirectional; IR Max (uA): 0.075; Number of Lines: 4; VRWM Max (V): 21; DatasheetVersion: Rev. 10; PackageVersion: Rev. N, 06/2012; PackageReference: SC-74-6-318F-05; PackageDescription: 6-Pin Small Outline Transistor, Body 3 x 1.5 mm, Pitch 0.95 mm; Supplier 1: Mouser; Supplier Part Number 1: N/A; Packing: Tape and Reel; Mounting Technology: Surface Mount; ComponentLink1Description: Manufacturer URL; ComponentLink1URL: http://www.onsemi.com/; ComponentLink2Description: Datasheet; ComponentLink2URL: http://www.onsemi.cn/pub_link/Collateral/MMQA-D.PDF; ComponentLink3Description: Package Specification; ComponentLink3URL: http://www.onsemi.com/pub_link/Collateral/318F-05.PDF
footprint ONSC-SC-74-6-318F-05_V (SOT23, 6-Leads, Body 3x1.5mm, Pitch 0.95mm)
pins: 1 K1, 2 A1, 3 K2, 4 K3, 5 A2, 6 K4

## MMQA33VT1
designator U?
Quad Monolithic Common Anode, Transient Voltage Suppressor for ESD Protection, 6-Pin SC-74, Tape and Reel; Manufacturer: On Semiconductor; PartNumber: MMQA33VT1; Direction: Unidirectional; IR Max (uA): 0.075; Number of Lines: 4; VRWM Max (V): 25; DatasheetVersion: Rev. 10; PackageVersion: Rev. N, 06/2012; PackageReference: SC-74-6-318F-05; PackageDescription: 6-Pin Small Outline Transistor, Body 3 x 1.5 mm, Pitch 0.95 mm; Supplier 1: Digi-Key; Supplier Part Number 1: MMQA33VT1-ND; Packing: Tape and Reel; Mounting Technology: Surface Mount; ComponentLink1Description: Manufacturer URL; ComponentLink1URL: http://www.onsemi.com/; ComponentLink2Description: Datasheet; ComponentLink2URL: http://www.onsemi.cn/pub_link/Collateral/MMQA-D.PDF; ComponentLink3Description: Package Specification; ComponentLink3URL: http://www.onsemi.com/pub_link/Collateral/318F-05.PDF
footprint ONSC-SC-74-6-318F-05_V (SOT23, 6-Leads, Body 3x1.5mm, Pitch 0.95mm)
pins: 1 K1, 2 A1, 3 K2, 4 K3, 5 A2, 6 K4

## MSQA6V1W5T2G
designator U?
Quad Array ESD Protection Diodes with Low Clamping Voltage, 5-Pin SC70, Pb-Free, Tape and Reel; Manufacturer: On Semiconductor; PartNumber: MSQA6V1W5T2G; C Max (pF): 90; Direction: Unidirectional; IR Max (uA): 1; Number of Lines: 4; PPK Max (W): 150; V(BR) Min (V): 6.1; DatasheetVersion: Rev. 7; PackageVersion: Rev. L, 01/2013; PackageReference: SC70-5-419A-02; PackageDescription: 5-Pin Small Outline Transistor, Body 2 x 1.25 mm, Pitch 0.65 mm; Supplier 1: Digi-Key; Supplier Part Number 1: MSQA6V1W5T2GOSTR-ND; Supplier 2: Digi-Key; Supplier Part Number 2: MSQA6V1W5T2GOSCT-ND; Supplier 3: Digi-Key; Supplier Part Number 3: MSQA6V1W5T2GOSDKR-ND; Supplier 4: Farnell; Supplier Part Number 4: 2317780; Supplier 5: Newark; Supplier Part Number 5: 85W2835; Supplier 6: Newark; Supplier Part Number 6: 83H7542; Supplier 7: Mouser; Supplier Part Number 7: 863-MSQA6V1W5T2G; Packing: Tape and Reel; RoHS: Pb-Free; Mounting Technology: Surface Mount; ComponentLink1Description: Manufacturer URL; ComponentLink1URL: http://www.onsemi.com/; ComponentLink2Description: Datasheet; ComponentLink2URL: http://www.onsemi.cn/pub_link/Collateral/MSQA6V1W5T2-D.PDF; ComponentLink3Description: Package Specification; ComponentLink3URL: http://www.onsemi.cn/pub_link/Collateral/419A-02.PDF
footprint ONSC-SC70-5-419A-02_V (SOT23, 5-Leads, Body 2x1.25mm, Pitch 0.65mm)
pins: 1 K1, 2 A, 3 K2, 4 K3, 5 K4

## NSQA6V8AW5T2
designator U?
Transient Voltage Suppressor, ESD Protection Diode with Low Clamping Voltage, 5-Pin SC70, Tape and Reel; Manufacturer: On Semiconductor; PartNumber: NSQA6V8AW5T2; Direction: Unidirectional; IR Max (uA): 1; Number of Lines: 4; PPK Max (W): 20; V(BR) Min (V): 6.4; DatasheetVersion: Rev. 5; PackageVersion: Rev. L, 01/2013; PackageReference: SC70-5-419A-02; PackageDescription: 5-Pin Small Outline Transistor, Body 2 x 1.25 mm, Pitch 0.65 mm; Supplier 1: Digi-Key; Supplier Part Number 1: NSQA6V8AW5T2OS-ND; Packing: Tape and Reel; Mounting Technology: Surface Mount; ComponentLink1Description: Manufacturer URL; ComponentLink1URL: http://www.onsemi.com/; ComponentLink2Description: Datasheet; ComponentLink2URL: http://www.onsemi.cn/pub_link/Collateral/NSQA6V8AW5T2-D.PDF; ComponentLink3Description: Package Specification; ComponentLink3URL: http://www.onsemi.cn/pub_link/Collateral/419A-02.PDF
footprint ONSC-SC70-5-419A-02_V (SOT23, 5-Leads, Body 2x1.25mm, Pitch 0.65mm)
pins: 1 K1, 2 A, 3 K2, 4 K3, 5 K4

## NSQA6V8AW5T2G
designator U?
Transient Voltage Suppressor, ESD Protection Diode with Low Clamping Voltage, 5-Pin SC70, Pb-Free, Tape and Reel; Manufacturer: On Semiconductor; PartNumber: NSQA6V8AW5T2G; Direction: Unidirectional; IR Max (uA): 1; Number of Lines: 4; PPK Max (W): 20; V(BR) Min (V): 6.4; DatasheetVersion: Rev. 5; PackageVersion: Rev. L, 01/2013; PackageReference: SC70-5-419A-02; PackageDescription: 5-Pin Small Outline Transistor, Body 2 x 1.25 mm, Pitch 0.65 mm; Supplier 1: Digi-Key; Supplier Part Number 1: NSQA6V8AW5T2GOSTR-ND; Supplier 2: Digi-Key; Supplier Part Number 2: NSQA6V8AW5T2GOSCT-ND; Supplier 3: Digi-Key; Supplier Part Number 3: NSQA6V8AW5T2GOSDKR-ND; Supplier 4: Newark; Supplier Part Number 4: 10N9703; Supplier 5: Newark; Supplier Part Number 5: 45J2077; Supplier 6: Mouser; Supplier Part Number 6: 863-NSQA6V8AW5T2G; Packing: Tape and Reel; RoHS: Pb-Free; Mounting Technology: Surface Mount; ComponentLink1Description: Manufacturer URL; ComponentLink1URL: http://www.onsemi.com/; ComponentLink2Description: Datasheet; ComponentLink2URL: http://www.onsemi.cn/pub_link/Collateral/NSQA6V8AW5T2-D.PDF; ComponentLink3Description: Package Specification; ComponentLink3URL: http://www.onsemi.cn/pub_link/Collateral/419A-02.PDF
footprint ONSC-SC70-5-419A-02_V (SOT23, 5-Leads, Body 2x1.25mm, Pitch 0.65mm)
pins: 1 K1, 2 A, 3 K2, 4 K3, 5 K4

## NSQA12VAW5T2
designator U?
Transient Voltage Suppressor, ESD Protection Diode with Low Clamping Voltage, 5-Pin SC70, Tape and Reel; Manufacturer: On Semiconductor; PartNumber: NSQA12VAW5T2; Direction: Unidirectional; IR Max (uA): 0.05; Number of Lines: 4; PPK Max (W): 20; V(BR) Min (V): 11.4; DatasheetVersion: Rev. 5; PackageVersion: Rev. L, 01/2013; PackageReference: SC70-5-419A-02; PackageDescription: 5-Pin Small Outline Transistor, Body 2 x 1.25 mm, Pitch 0.65 mm; Supplier 1: Digi-Key; Supplier Part Number 1: NSQA12VAW5T2-ND; Packing: Tape and Reel; Mounting Technology: Surface Mount; ComponentLink1Description: Manufacturer URL; ComponentLink1URL: http://www.onsemi.com/; ComponentLink2Description: Datasheet; ComponentLink2URL: http://www.onsemi.cn/pub_link/Collateral/NSQA6V8AW5T2-D.PDF; ComponentLink3Description: Package Specification; ComponentLink3URL: http://www.onsemi.cn/pub_link/Collateral/419A-02.PDF
footprint ONSC-SC70-5-419A-02_V (SOT23, 5-Leads, Body 2x1.25mm, Pitch 0.65mm)
pins: 1 K1, 2 A, 3 K2, 4 K3, 5 K4

## NSQA12VAW5T2G
designator U?
Transient Voltage Suppressor, ESD Protection Diode with Low Clamping Voltage, 5-Pin SC70, Pb-Free, Tape and Reel; Manufacturer: On Semiconductor; PartNumber: NSQA12VAW5T2G; Direction: Unidirectional; IR Max (uA): 0.05; Number of Lines: 4; PPK Max (W): 20; V(BR) Min (V): 11.4; DatasheetVersion: Rev. 5; PackageVersion: Rev. L, 01/2013; PackageReference: SC70-5-419A-02; PackageDescription: 5-Pin Small Outline Transistor, Body 2 x 1.25 mm, Pitch 0.65 mm; Supplier 1: Digi-Key; Supplier Part Number 1: NSQA12VAW5T2GOSTR-ND; Supplier 2: Digi-Key; Supplier Part Number 2: NSQA12VAW5T2GOSCT-ND; Supplier 3: Newark; Supplier Part Number 3: 26K5080; Supplier 4: Mouser; Supplier Part Number 4: 863-NSQA12VAW5T2G; Packing: Tape and Reel; RoHS: Pb-Free; Mounting Technology: Surface Mount; ComponentLink1Description: Manufacturer URL; ComponentLink1URL: http://www.onsemi.com/; ComponentLink2Description: Datasheet; ComponentLink2URL: http://www.onsemi.cn/pub_link/Collateral/NSQA6V8AW5T2-D.PDF; ComponentLink3Description: Package Specification; ComponentLink3URL: http://www.onsemi.cn/pub_link/Collateral/419A-02.PDF
footprint ONSC-SC70-5-419A-02_V (SOT23, 5-Leads, Body 2x1.25mm, Pitch 0.65mm)
pins: 1 K1, 2 A, 3 K2, 4 K3, 5 K4

## NUP45V6P5T5G
designator U?
Low Capacitance Quad Array for ESD Protection, 5-Pin SOT-953, Pb-Free, Tape and Reel; Manufacturer: On Semiconductor; PartNumber: NUP45V6P5T5G; Direction: Unidirectional; IR Max (uA): 1; Number of Lines: 4; V(BR) Min (V): 5.3; VRWM Max (V): 3; DatasheetVersion: Rev. 3; PackageVersion: Rev. E, 08/2011; PackageReference: SOT-953-5-527AE; PackageDescription: 5-Pin Small Outline Transistor, Body 1 x 0.8 mm, Pitch 0.35 mm; Supplier 1: Digi-Key; Supplier Part Number 1: NUP45V6P5T5G-ND; Supplier 2: Mouser; Supplier Part Number 2: 863-NUP45V6P5T5G; Packing: Tape and Reel; RoHS: Pb-Free; Mounting Technology: Surface Mount; ComponentLink1Description: Manufacturer URL; ComponentLink1URL: http://www.onsemi.com/; ComponentLink2Description: Datasheet; ComponentLink2URL: http://www.onsemi.com/pub_link/Collateral/NUP45V6P5-D.PDF; ComponentLink3Description: Package Specification; ComponentLink3URL: http://www.onsemi.com/pub_link/Collateral/527AE.PDF
footprint ONSC-SOT-953-5-527AE_V (SOT23, 5-Leads, Body 1x0.8mm, Pitch 0.35mm)
pins: 1 K1, 2 A, 3 K2, 4 K3, 5 K4

## NUP46V8P5T5G
designator U?
Low Capacitance Quad Array for ESD Protection, 5-Pin SOT-953, Pb-Free, Tape and Reel; Manufacturer: On Semiconductor; PartNumber: NUP46V8P5T5G; Direction: Unidirectional; IR Max (uA): 1; Number of Lines: 4; PPK Max (W): 10; V(BR) Min (V): 6.47; VRWM Max (V): 4.3; DatasheetVersion: Rev. 0; PackageVersion: Rev. C, 07/2008; PackageReference: SOT-953-5-527AB-01; PackageDescription: 5-Pin Small Outline Transistor, Body 1 x 0.8 mm, Pitch 0.35 mm; Supplier 1: Digi-Key; Supplier Part Number 1: NUP46V8P5T5G-ND; Supplier 2: Mouser; Supplier Part Number 2: 863-NUP46V8P5T5G; Packing: Tape and Reel; RoHS: Pb-Free; Mounting Technology: Surface Mount; ComponentLink1Description: Manufacturer URL; ComponentLink1URL: http://www.onsemi.com/; ComponentLink2Description: Datasheet; ComponentLink2URL: http://www.onsemi.com/pub_link/Collateral/NUP46V8P5-D.PDF; ComponentLink3Description: Package Specification; ComponentLink3URL: http://www.onsemi.cn/pub_link/Collateral/527AB.PDF
footprint ONSC-SOT-953-5-527AB-01_V (SOT23, 5-Leads, Body 1x0.8mm, Pitch 0.35mm)
pins: 1 K1, 2 A, 3 K2, 4 K3, 5 K4

## NUP412VP5T5G
designator U?
Low Capacitance Quad Array for ESD Protection, 5-Pin SOT-953, Pb-Free, Tape and Reel; Manufacturer: On Semiconductor; PartNumber: NUP412VP5T5G; Direction: Unidirectional; IR Max (uA): 0.5; Number of Lines: 4; PPK Max (W): 18; V(BR) Min (V): 11.4; VRWM Max (V): 9; DatasheetVersion: Rev. 1; PackageVersion: Rev. C, 07/2008; PackageReference: SOT-953-5-527AB-01; PackageDescription: 5-Pin Small Outline Transistor, Body 1 x 0.8 mm, Pitch 0.35 mm; Supplier 1: Digi-Key; Supplier Part Number 1: NUP412VP5T5GOSTR-ND; Supplier 2: Digi-Key; Supplier Part Number 2: NUP412VP5T5GOSCT-ND; Supplier 3: Digi-Key; Supplier Part Number 3: NUP412VP5T5GOSDKR-ND; Supplier 4: Mouser; Supplier Part Number 4: 863-NUP412VP5T5G; Packing: Tape and Reel; RoHS: Pb-Free; Mounting Technology: Surface Mount; ComponentLink1Description: Manufacturer URL; ComponentLink1URL: http://www.onsemi.com/; ComponentLink2Description: Datasheet; ComponentLink2URL: http://www.onsemi.com/pub_link/Collateral/NUP412VP5-D.PDF; ComponentLink3Description: Package Specification; ComponentLink3URL: http://www.onsemi.cn/pub_link/Collateral/527AB.PDF
footprint ONSC-SOT-953-5-527AB-01_V (SOT23, 5-Leads, Body 1x0.8mm, Pitch 0.35mm)
pins: 1 K1, 2 A, 3 K2, 4 K3, 5 K4

## NUP1105LT1G
designator D?
Single Line CAN / LIN Bus Protector, 3-Pin SOT-23, Pb-Free, Tape and Reel; Manufacturer: On Semiconductor; PartNumber: NUP1105LT1G; Direction: Bidirectional; IR Max (uA): 0.1; Number of Lines: 1; PPK Max (W): 350; V(BR) Min (V): 25.7; DatasheetVersion: Rev. 4; PackageVersion: Rev. AP, 11/2009; PackageReference: SOT-23-3-318-08; PackageDescription: 3-Pin Small Outline Transistor, Body 2.92 x 1.3 mm, Pitch 0.95 mm; Supplier 1: Digi-Key; Supplier Part Number 1: NUP1105LT1GOSTR-ND; Supplier 2: Digi-Key; Supplier Part Number 2: NUP1105LT1GOSCT-ND; Supplier 3: Digi-Key; Supplier Part Number 3: NUP1105LT1GOSDKR-ND; Supplier 4: Farnell; Supplier Part Number 4: 1899525; Supplier 5: Newark; Supplier Part Number 5: 09R9674; Supplier 6: Newark; Supplier Part Number 6: 42K2482; Supplier 7: Mouser; Supplier Part Number 7: 863-NUP1105LT1G; Packing: Tape and Reel; RoHS: Pb-Free; Mounting Technology: Surface Mount; ComponentLink1Description: Manufacturer URL; ComponentLink1URL: http://www.onsemi.com/; ComponentLink2Description: Datasheet; ComponentLink2URL: http://www.onsemi.cn/pub_link/Collateral/NUP1105L-D.PDF; ComponentLink3Description: Package Specification; ComponentLink3URL: http://www.onsemi.cn/pub_link/Collateral/318-08.PDF
footprint ONSC-SOT-23-3-318-08_V (SOT23, 3-Leads, Body 2.92x1.3mm, Pitch 0.95mm)
pins: 1 A1, 2 A2, 3 K

## NUP1105LT3G
designator D?
Single Line CAN / LIN Bus Protector, 3-Pin SOT-23, Pb-Free, Tape and Reel; Manufacturer: On Semiconductor; PartNumber: NUP1105LT3G; Direction: Bidirectional; IR Max (uA): 0.1; Number of Lines: 1; PPK Max (W): 350; V(BR) Min (V): 25.7; DatasheetVersion: Rev. 4; PackageVersion: Rev. AP, 11/2009; PackageReference: SOT-23-3-318-08; PackageDescription: 3-Pin Small Outline Transistor, Body 2.92 x 1.3 mm, Pitch 0.95 mm; Supplier 1: Digi-Key; Supplier Part Number 1: NUP1105LT3G-ND; Supplier 2: Mouser; Supplier Part Number 2: 863-NUP1105LT3G; Packing: Tape and Reel; RoHS: Pb-Free; Mounting Technology: Surface Mount; ComponentLink1Description: Manufacturer URL; ComponentLink1URL: http://www.onsemi.com/; ComponentLink2Description: Datasheet; ComponentLink2URL: http://www.onsemi.cn/pub_link/Collateral/NUP1105L-D.PDF; ComponentLink3Description: Package Specification; ComponentLink3URL: http://www.onsemi.cn/pub_link/Collateral/318-08.PDF
footprint ONSC-SOT-23-3-318-08_V (SOT23, 3-Leads, Body 2.92x1.3mm, Pitch 0.95mm)
pins: 1 A1, 2 A2, 3 K

## NUP1301ML3T1G
designator D?
Low Capacitance Diode Array for ESD Protection in a Single Data Line, 3-Pin SOT-23, Pb-Free, Tape and Reel; Manufacturer: On Semiconductor; PartNumber: NUP1301ML3T1G; C Max (pF): 0.9; Direction: Bidirectional; Number of Lines: 1; V(BR) Min (V): 70; DatasheetVersion: Rev. 6; PackageVersion: Rev. AP, 11/2009; PackageReference: SOT-23-3-318-08; PackageDescription: 3-Pin Small Outline Transistor, Body 2.92 x 1.3 mm, Pitch 0.95 mm; Supplier 1: Digi-Key; Supplier Part Number 1: NUP1301ML3T1GOSTR-ND; Supplier 2: Digi-Key; Supplier Part Number 2: NUP1301ML3T1GOSCT-ND; Supplier 3: Digi-Key; Supplier Part Number 3: NUP1301ML3T1GOSDKR-ND; Supplier 4: Newark; Supplier Part Number 4: 10N9593; Supplier 5: Newark; Supplier Part Number 5: 45J2200; Supplier 6: Mouser; Supplier Part Number 6: 863-NUP1301ML3T1G; Packing: Tape and Reel; RoHS: Pb-Free; VRWM Max (V): 70; Mounting Technology: Surface Mount; ComponentLink1Description: Manufacturer URL; ComponentLink1URL: http://www.onsemi.com/; ComponentLink2Description: Datasheet; ComponentLink2URL: http://www.onsemi.cn/pub_link/Collateral/NUP1301ML3T1-D.PDF; ComponentLink3Description: Package Specification; ComponentLink3URL: http://www.onsemi.cn/pub_link/Collateral/318-08.PDF
footprint ONSC-SOT-23-3-318-08_V (SOT23, 3-Leads, Body 2.92x1.3mm, Pitch 0.95mm)
pins: 1 A, 2 K, 3 K/A

## NUP2105LT1
designator D?
Dual Line CAN Bus Protector, 3-Pin SOT-23, Tape and Reel; Manufacturer: On Semiconductor; PartNumber: NUP2105LT1; C Max (pF): 30; Direction: Bidirectional; IR Max (uA): 0.1; Number of Lines: 2; PPK Max (W): 350; V(BR) Min (V): 26.2; DatasheetVersion: Rev. 5; PackageVersion: Rev. AP, 11/2009; PackageReference: SOT-23-3-318-08; PackageDescription: 3-Pin Small Outline Transistor, Body 2.92 x 1.3 mm, Pitch 0.95 mm; Supplier 1: Digi-Key; Supplier Part Number 1: NUP2105LT1-ND; Packing: Tape and Reel; Mounting Technology: Surface Mount; ComponentLink1Description: Manufacturer URL; ComponentLink1URL: http://www.onsemi.com/; ComponentLink2Description: Datasheet; ComponentLink2URL: http://www.onsemi.cn/pub_link/Collateral/NUP2105L-D.PDF; ComponentLink3Description: Package Specification; ComponentLink3URL: http://www.onsemi.cn/pub_link/Collateral/318-08.PDF
footprint ONSC-SOT-23-3-318-08_V (SOT23, 3-Leads, Body 2.92x1.3mm, Pitch 0.95mm)
pins: 1 K, 2 K, 3 K

## NUP2105LT1G
designator D?
Dual Line CAN Bus Protector, 3-Pin SOT-23, Pb-Free, Tape and Reel; Manufacturer: On Semiconductor; PartNumber: NUP2105LT1G; C Max (pF): 30; Direction: Bidirectional; IR Max (uA): 0.1; Number of Lines: 2; PPK Max (W): 350; V(BR) Min (V): 26.2; DatasheetVersion: Rev. 5; PackageVersion: Rev. AP, 11/2009; PackageReference: SOT-23-3-318-08; PackageDescription: 3-Pin Small Outline Transistor, Body 2.92 x 1.3 mm, Pitch 0.95 mm; Supplier 1: Digi-Key; Supplier Part Number 1: NUP2105LT1GOSTR-ND; Supplier 2: Digi-Key; Supplier Part Number 2: NUP2105LT1GOSCT-ND; Supplier 3: Digi-Key; Supplier Part Number 3: NUP2105LT1GOSDKR-ND; Supplier 4: Farnell; Supplier Part Number 4: 2101833; Supplier 5: Farnell; Supplier Part Number 5: 2317777; Supplier 6: Newark; Supplier Part Number 6: 06R3477; Supplier 7: Newark; Supplier Part Number 7: 45J2202; Supplier 8: Mouser; Supplier Part Number 8: 863-NUP2105LT1G; Packing: Tape and Reel; RoHS: Pb-Free; Mounting Technology: Surface Mount; ComponentLink1Description: Manufacturer URL; ComponentLink1URL: http://www.onsemi.com/; ComponentLink2Description: Datasheet; ComponentLink2URL: http://www.onsemi.cn/pub_link/Collateral/NUP2105L-D.PDF; ComponentLink3Description: Package Specification; ComponentLink3URL: http://www.onsemi.cn/pub_link/Collateral/318-08.PDF
footprint ONSC-SOT-23-3-318-08_V (SOT23, 3-Leads, Body 2.92x1.3mm, Pitch 0.95mm)
pins: 1 K, 2 K, 3 K

## NUP2105LT3
designator D?
Dual Line CAN Bus Protector, 3-Pin SOT-23, Tape and Reel; Manufacturer: On Semiconductor; PartNumber: NUP2105LT3; C Max (pF): 30; Direction: Bidirectional; IR Max (uA): 0.1; Number of Lines: 2; PPK Max (W): 350; V(BR) Min (V): 26.2; DatasheetVersion: Rev. 5; PackageVersion: Rev. AP, 11/2009; PackageReference: SOT-23-3-318-08; PackageDescription: 3-Pin Small Outline Transistor, Body 2.92 x 1.3 mm, Pitch 0.95 mm; Packing: Tape and Reel; Mounting Technology: Surface Mount; ComponentLink1Description: Manufacturer URL; ComponentLink1URL: http://www.onsemi.com/; ComponentLink2Description: Datasheet; ComponentLink2URL: http://www.onsemi.cn/pub_link/Collateral/NUP2105L-D.PDF; ComponentLink3Description: Package Specification; ComponentLink3URL: http://www.onsemi.cn/pub_link/Collateral/318-08.PDF
footprint ONSC-SOT-23-3-318-08_V (SOT23, 3-Leads, Body 2.92x1.3mm, Pitch 0.95mm)
pins: 1 K, 2 K, 3 K

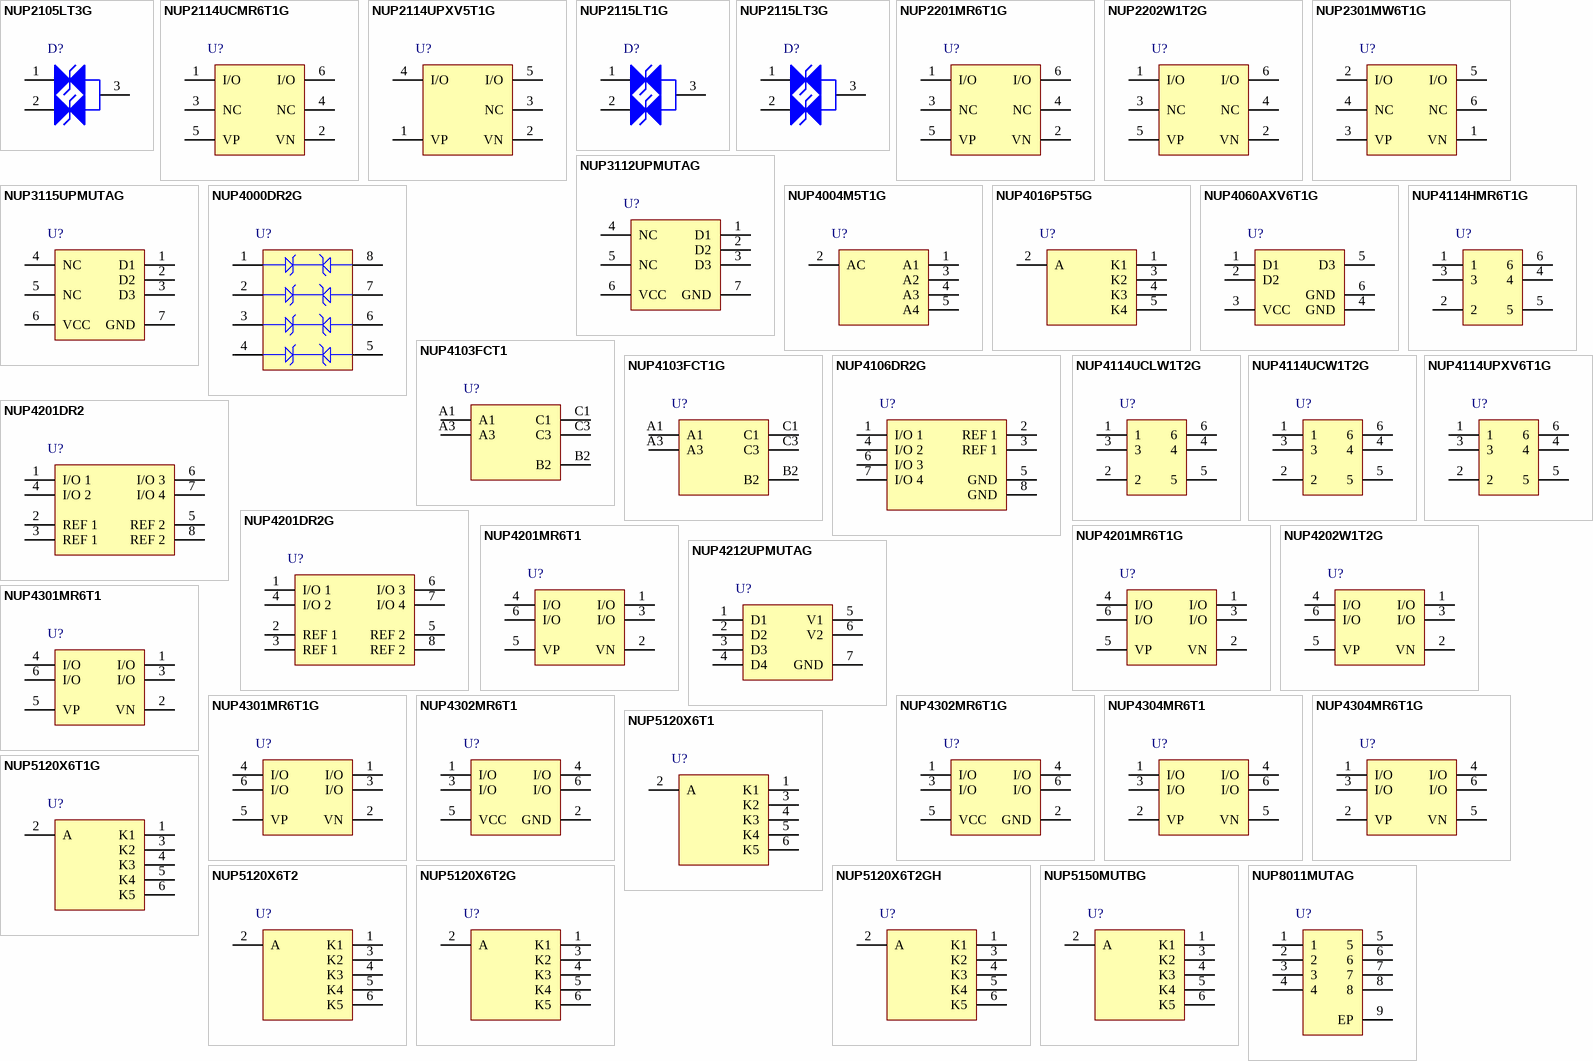
[diagram p4: symbols NUP2105LT3G to NUP8011MUTAG]

## NUP2105LT3G
designator D?
Dual Line CAN Bus Protector, 3-Pin SOT-23, Pb-Free, Tape and Reel; Manufacturer: On Semiconductor; PartNumber: NUP2105LT3G; C Max (pF): 30; Direction: Bidirectional; IR Max (uA): 0.1; Number of Lines: 2; PPK Max (W): 350; V(BR) Min (V): 26.2; DatasheetVersion: Rev. 5; PackageVersion: Rev. AP, 11/2009; PackageReference: SOT-23-3-318-08; PackageDescription: 3-Pin Small Outline Transistor, Body 2.92 x 1.3 mm, Pitch 0.95 mm; Supplier 1: Digi-Key; Supplier Part Number 1: NUP2105LT3G-ND; Supplier 2: Mouser; Supplier Part Number 2: 863-NUP2105LT3G; Packing: Tape and Reel; RoHS: Pb-Free; Mounting Technology: Surface Mount; ComponentLink1Description: Manufacturer URL; ComponentLink1URL: http://www.onsemi.com/; ComponentLink2Description: Datasheet; ComponentLink2URL: http://www.onsemi.cn/pub_link/Collateral/NUP2105L-D.PDF; ComponentLink3Description: Package Specification; ComponentLink3URL: http://www.onsemi.cn/pub_link/Collateral/318-08.PDF
footprint ONSC-SOT-23-3-318-08_V (SOT23, 3-Leads, Body 2.92x1.3mm, Pitch 0.95mm)
pins: 1 K, 2 K, 3 K